# EAGLE library part STM32C011F6U6 (library Optical_Tracking_Odometry_Sensor)
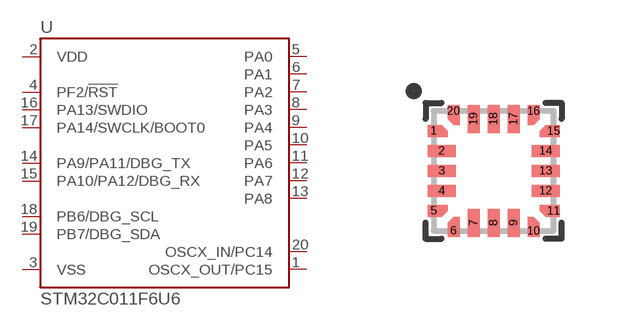
[diagram p1: symbol with the pads of STM32C011F6U6; footprint STM32C011F6U6]

Designator prefix U

## STM32C011F6U6 (PROD_ID: IC-21321)  [STM32C011F6U6]
1  OSCX_OUT/PC15
2  VDD
3  VSS
4  PF2/!RST!
5  PA0
6  PA1
7  PA2
8  PA3
9  PA4
10  PA5
11  PA6
12  PA7
13  PA8
14  PA9/PA11/DBG_TX
15  PA10/PA12/DBG_RX
16  PA13/SWDIO
17  PA14/SWCLK/BOOT0
18  PB6/DBG_SCL
19  PB7/DBG_SDA
20  OSCX_IN/PC14

## Footprint STM32C011F6U6 (pad centres in mm)
smd 0.3 x 0.3: 1 -1.5,1; 5 -1.5,-1; 6 -1,-1.5; 10 1,-1.5; 11 1.5,-1; 15 1.5,1; 16 1,1.5; 20 -1,1.5
smd 0.7 x 0.3: 2 -1.3,0.5; 3 -1.3,0; 4 -1.3,-0.5; 12 1.3,-0.5; 13 1.3,0; 14 1.3,0.5
smd 0.3 x 0.7: 7 -0.5,-1.3; 8 0,-1.3; 9 0.5,-1.3; 17 0.5,1.3; 18 0,1.3; 19 -0.5,1.3